# EAGLE library part MSII (library unicorn)
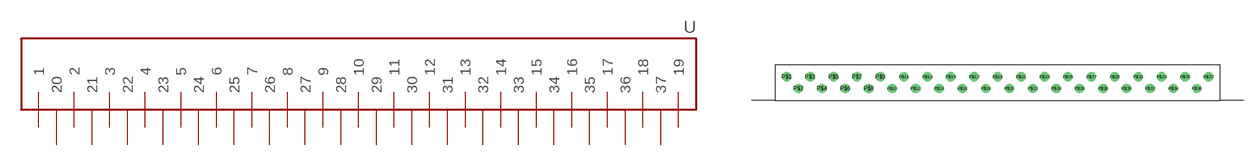
[diagram p1: symbol with the pads of SYSTEM-37; footprint SYSTEM-37]

Designator prefix -

## MSII  [SYSTEM-37]
P$1  1
P$2  2
P$3  3
P$4  4
P$5  5
P$6  6
P$7  7
P$8  8
P$9  9
P$10  10
P$11  11
P$12  12
P$13  13
P$14  14
P$15  15
P$16  16
P$17  17
P$18  18
P$19  19
P$20  20
P$21  21
P$22  22
P$23  23
P$24  24
P$25  25
P$26  26
P$27  27
P$28  28
P$29  29
P$30  30
P$31  31
P$32  32
P$33  33
P$34  34
P$35  35
P$36  36
P$37  37

## Footprint SYSTEM-37 (pad centres in mm)
drill 0.5 round: P$1 -13.97,1.27; P$2 -12.7,0; P$3 -11.43,1.27; P$4 -10.16,0; P$5 -8.89,1.27; P$6 -7.62,0; P$7 -6.35,1.27; P$8 -5.08,0; P$9 -3.81,1.27; P$10 -2.54,0; P$11 -1.27,1.27; P$12 0,0; P$13 1.27,1.27; P$14 2.54,0; P$15 3.81,1.27; P$16 5.08,0; P$17 6.35,1.27; P$18 7.62,0; P$19 8.89,1.27; P$20 10.16,0; P$21 11.43,1.27; P$22 12.7,0; P$23 13.97,1.27; P$24 15.24,0; P$25 16.51,1.27; P$26 17.78,0; P$27 19.05,1.27; P$28 20.32,0; P$29 21.59,1.27; P$30 22.86,0; P$31 24.13,1.27; P$32 25.4,0; P$33 26.67,1.27; P$34 27.94,0; P$35 29.21,1.27; P$36 30.48,0; P$37 31.75,1.27